# Altium schematic symbol library SCH - OPAMP - TI TLV4171IDR.Schlib: 1 symbol
Pins are listed as number, name and electrical type; pins without a type are passive.

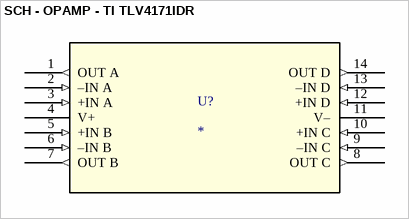
[diagram p0: symbol SCH - OPAMP - TI TLV4171IDR]

## SCH - OPAMP - TI TLV4171IDR
designator U?
footprint D0014A_N
pins: 1 OUT A (out), 2 –IN A (in), 3 +IN A (in), 4 V+ (power), 5 +IN B (in), 6 –IN B (in), 7 OUT B (out), 8 OUT C (out), 9 –IN C (in), 10 +IN C (in), 11 V– (power), 12 +IN D (in), 13 –IN D (in), 14 OUT D (out)